# Altium integrated library MP1584.IntLib: 1 symbol
Pins are listed as number, name and electrical type; pins without a type are passive.

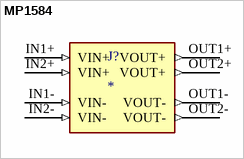
[diagram p0: symbol MP1584]

## MP1584
designator J?
Buck Switching Regulator IC Positive Adjustable 0.8V 1 Output 3A 8-SOIC (0.154, 3.90mm Width) Exposed Pad; MF: Monolithic Power; MP: MP1584; SnapEDA_Link: https://www.snapeda.com/parts/MP1584/Monolithic+Power+Systems+Inc./view-part/?ref=snap; Package: SOIC-8 Monolithic Power; Value: *; Check_prices: https://www.snapeda.com/parts/MP1584/Monolithic+Power+Systems+Inc./view-part/?ref=eda
footprint DC-BRICK
pins: IN1+ VIN+ (in), IN1- VIN- (in), IN2+ VIN+ (in), IN2- VIN- (in), OUT1+ VOUT+ (out), OUT1- VOUT- (out), OUT2+ VOUT+ (out), OUT2- VOUT- (out)